# EAGLE library part NANO (library firmware_training_board)
Arduino Nano
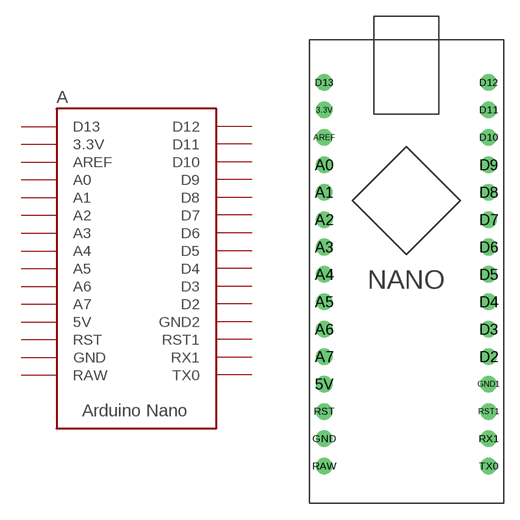
[diagram p0: symbol with the pads of NANO; footprint NANO]

Designator prefix A

## NANO  [NANO]
3.3V  3.3V
5V  5V
A0  A0
A1  A1
A2  A2
A3  A3
A4  A4
A5  A5
A6  A6
A7  A7
AREF  AREF
D2  D2
D3  D3
D4  D4
D5  D5
D6  D6
D7  D7
D8  D8
D9  D9
D10  D10
D11  D11
D12  D12
D13  D13
GND  GND
GND1  GND2
RAW  RAW
RST  RST
RST1  RST1
RX1  RX1
TX0  TX0

## Footprint NANO (pad centres in mm)
Arduino Nano
drill 1.02: 3.3V -7.62,14.7; 5V -7.62,-10.7; A0 -7.62,9.62; A1 -7.62,7.08; A2 -7.62,4.54; A3 -7.62,2; A4 -7.62,-0.54; A5 -7.62,-3.08; A6 -7.62,-5.62; A7 -7.62,-8.16; AREF -7.62,12.16; D2 7.62,-8.16; D3 7.62,-5.62; D4 7.62,-3.08; D5 7.62,-0.54; D6 7.62,2; D7 7.62,4.54; D8 7.62,7.08; D9 7.62,9.62; D10 7.62,12.16; D11 7.62,14.7; D12 7.62,17.24; D13 -7.62,17.24; GND -7.62,-15.78; GND1 7.62,-10.7; RAW -7.62,-18.32; RST -7.62,-13.24; RST1 7.62,-13.24; RX1 7.62,-15.78; TX0 7.62,-18.32